# Altium schematic symbol library SCH - POWER - LINEAR VREG - TI TLV1117-33DCY.SchLib: 1 symbol
Pins are listed as number, name and electrical type; pins without a type are passive.

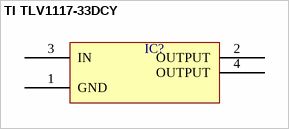
[diagram p0: symbol TI TLV1117-33DCY]

## TI TLV1117-33DCY
designator IC?  (value not drawn)
pins: 1 GND, 2 OUTPUT, 3 IN, 4 OUTPUT